# Altium footprint library TI_National_Semiconductor_LM2576T_5_0_NOPB_0.PcbLib: 1 footprints
Each footprint in its own frame and in the unit in brackets; x right, y up, seen from the top. Pads: shape width x height; smd on the part's side, far side on the other; paste and mask are expansions set on the pad; w line width, h text height; cw(c..) or ccw(c..) is an arc to the next point about the centre after c.
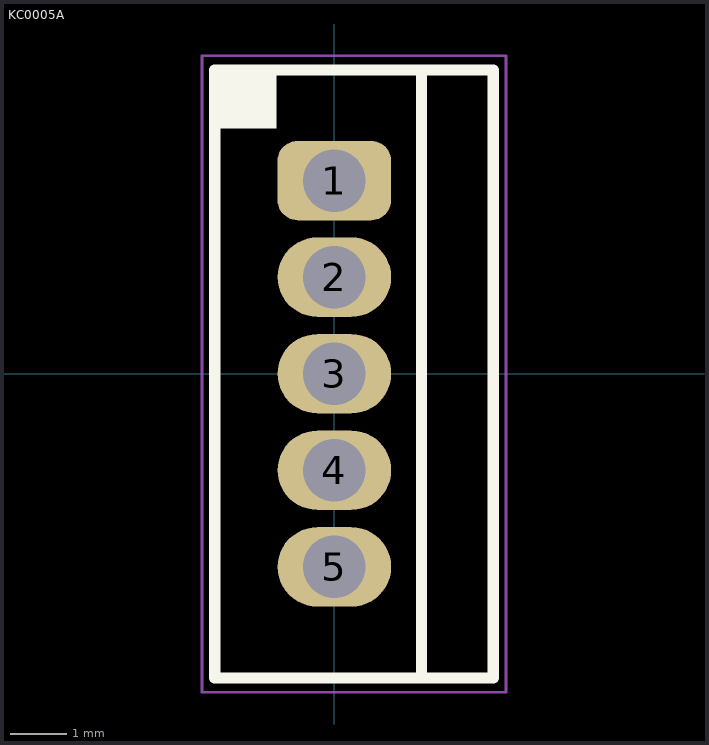
[diagram p0: the footprint, top view; thin cyan lines are the x and y axes]

## KC0005A [mm] "FM, 5-Leads, Body 10.16x8.46mm, Pitch 1.7mm"
height 16.51
pads (5):
  rrect50% 2x1.4 hole 1.1: 1(0,3.4)
  oval 2x1.4 hole 1.1: 2(0,1.7) 3(0,0) 4(0,-1.7) 5(0,-3.4)
Top Overlay:
  rectangle: -2.127,4.313 -1.016,5.345
  lines w0.2: 1.533,-5.355 1.533,5.345 ; -2.105,-5.355 -2.105,5.345 2.795,5.345 2.795,-5.355 -2.105,-5.355
Mechanical 1:
  text ".Designator" at -0.508,1.646 h1.02
Mechanical 13:
  lines w0.1: 1.52,-5.355 1.52,5.345 ; -2.08,-5.355 2.77,-5.355 2.77,5.345 -2.08,5.345 -2.08,-5.355
Mechanical 15:
  lines w0.05: -2.33,-5.605 3.02,-5.605 3.02,5.595 -2.33,5.595 -2.33,-5.605
  lines w0.1: -0.5,-0.005 0.5,-0.005 ; 0,-0.505 0,0.495
3D body: height 16.51, standoff 15.64, extent 1.52,-5.08 2.77,5.07
3D body: height 14.09, standoff 13.71, extent 1.52,-5.08 2.77,-1.93
3D body: height 14.09, standoff 13.71, extent 1.52,1.92 2.77,5.07
3D body: height 13.71, standoff 13.33, extent 1.52,-5.08 2.77,-1.93
3D body: height 13.71, standoff 13.33, extent 1.52,1.92 2.77,5.07
3D body: height 14.45, standoff 14.09, extent 1.52,-5.08 2.77,-1.893
3D body: height 14.45, standoff 14.09, extent 1.52,1.883 2.77,5.07
3D body: height 13.34, standoff 12.97, extent 1.52,-5.08 2.77,-1.893
3D body: height 13.34, standoff 12.97, extent 1.52,1.883 2.77,5.07
3D body: height 14.78, standoff 14.45, extent 1.52,-5.08 2.77,-1.783
3D body: height 14.78, standoff 14.45, extent 1.52,1.773 2.77,5.07
3D body: height 12.98, standoff 12.64, extent 1.52,-5.08 2.77,-1.783
3D body: height 12.98, standoff 12.64, extent 1.52,1.773 2.77,5.07
3D body: height 15.08, standoff 14.78, extent 1.52,-5.08 2.77,-1.606
3D body: height 15.08, standoff 14.78, extent 1.52,1.596 2.77,5.07
3D body: height 12.65, standoff 12.35, extent 1.52,-5.08 2.77,-1.606
3D body: height 12.65, standoff 12.35, extent 1.52,1.596 2.77,5.07
3D body: height 15.32, standoff 15.07, extent 1.52,-5.08 2.77,-1.366
3D body: height 15.32, standoff 15.07, extent 1.52,1.356 2.77,5.07
3D body: height 12.35, standoff 12.11, extent 1.52,-5.08 2.77,-1.366
3D body: height 12.35, standoff 12.11, extent 1.52,1.356 2.77,5.07
3D body: height 15.49, standoff 15.31, extent 1.52,-5.08 2.77,-1.074
3D body: height 15.49, standoff 15.31, extent 1.52,1.064 2.77,5.07
3D body: height 12.11, standoff 11.93, extent 1.52,-5.08 2.77,-1.074
3D body: height 12.11, standoff 11.93, extent 1.52,1.064 2.77,5.07
3D body: height 15.6, standoff 15.49, extent 1.52,-5.08 2.77,-0.742
3D body: height 15.6, standoff 15.49, extent 1.52,0.732 2.77,5.07
3D body: height 11.94, standoff 11.82, extent 1.52,-5.08 2.77,-0.742
3D body: height 11.94, standoff 11.82, extent 1.52,0.732 2.77,5.07
3D body: height 15.64, standoff 15.6, extent 1.52,-5.08 2.77,-0.381
3D body: height 15.64, standoff 15.6, extent 1.52,0.371 2.77,5.07
3D body: height 11.83, standoff 11.79, extent 1.52,-5.08 2.77,-0.381
3D body: height 11.83, standoff 11.79, extent 1.52,0.371 2.77,5.07
3D body: height 11.79, standoff 10.21, extent 1.52,-5.08 2.77,5.07
3D body: height 10.21, standoff 0, extent -2.08,-5.355 2.77,5.345
3D body: height 0, standoff -1.6, extent -0.23,-3.815 0.23,-2.985
3D body: height 0, standoff -1.6, extent -0.23,-2.115 0.23,-1.285
3D body: height 0, standoff -1.6, extent -0.23,-0.415 0.23,0.415
3D body: height 0, standoff -1.6, extent -0.23,1.285 0.23,2.115
3D body: height 0, standoff -1.6, extent -0.23,2.985 0.23,3.815